# Altium schematic symbol library Capacitors - Ceramic - 01005.SchLib: 571 symbols (part 7 of 13)
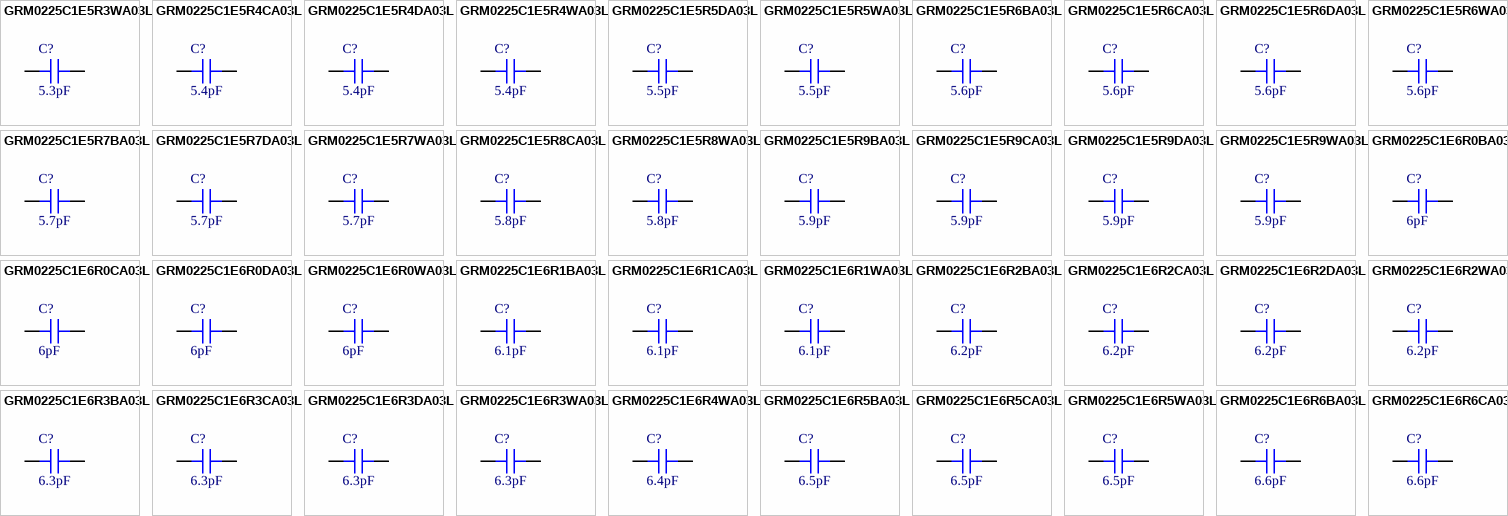
[diagram p20: symbols GRM0225C1E5R3WA03L to GRM0225C1E6R6CA03L]

## GRM0225C1E5R4CA03L
designator C?, comment 5.4pF
CAP CER 5.4PF 25V C0G/NP0 01005; Part Number: GRM0225C1E5R4CA03L; Manufacturer: Murata Electronics; Temperature Coefficient: C0G, NP0; Tolerance: ±0.25pF; Value: 5.4pF; Applications: General Purpose; Capacitance: 5.4pF; ComponentLink1Description: Datasheet; ComponentLink1URL: https://search.murata.co.jp/Ceramy/image/img/A01X/G101/ENG/GRM0225C1E5R4CA03-01.pdf; ComponentLink2Description: DigiKey Link; ComponentLink2URL: http://digikey.com/product-detail/en/murata-electronics/GRM0225C1E5R4CA03L/490-13610-1-ND/6048352; Device Package: 01005 (0402 Metric); LastUpdated: 9/2/2020 1:27:44 AM; Lifecycle Status: Active; Minimum Order: 1; Mounting Type: Surface Mount, MLCC; Operating Temperature: -55°C ~ 125°C; Package / Case: 01005 (0402 Metric); Packaging: TapeAndReel; Part Status: Active; Price: 0.01; Series: GRM; Size / Dimension: 0.016" L x 0.008" W (0.40mm x 0.20mm); Supplier 1: DigiKey; Supplier Part Number 1: 490-13610-1-ND; Thickness (Max): 0.009" (0.22mm); Voltage - Rated: 25V
footprint CAP 01005_0402
pins: 1, 2

## GRM0225C1E5R4DA03L
designator C?, comment 5.4pF
CAP CER 5.4PF 25V C0G/NP0 01005; Part Number: GRM0225C1E5R4DA03L; Manufacturer: Murata Electronics; Temperature Coefficient: C0G, NP0; Tolerance: ±0.5pF; Value: 5.4pF; Applications: General Purpose; Capacitance: 5.4pF; ComponentLink1Description: Datasheet; ComponentLink1URL: https://search.murata.co.jp/Ceramy/image/img/A01X/G101/ENG/GRM0225C1E5R4DA03-01.pdf; ComponentLink2Description: DigiKey Link; ComponentLink2URL: http://digikey.com/product-detail/en/murata-electronics/GRM0225C1E5R4DA03L/490-13611-1-ND/6048353; Device Package: 01005 (0402 Metric); LastUpdated: 9/2/2020 1:27:44 AM; Lifecycle Status: Active; Minimum Order: 1; Mounting Type: Surface Mount, MLCC; Operating Temperature: -55°C ~ 125°C; Package / Case: 01005 (0402 Metric); Packaging: TapeAndReel; Part Status: Active; Price: 0.01; Series: GRM; Size / Dimension: 0.016" L x 0.008" W (0.40mm x 0.20mm); Supplier 1: DigiKey; Supplier Part Number 1: 490-13611-1-ND; Thickness (Max): 0.009" (0.22mm); Voltage - Rated: 25V
footprint CAP 01005_0402
pins: 1, 2

## GRM0225C1E5R4WA03L
designator C?, comment 5.4pF
CAP CER 5.4PF 25V C0G/NP0 01005; Part Number: GRM0225C1E5R4WA03L; Manufacturer: Murata Electronics; Temperature Coefficient: C0G, NP0; Tolerance: ±0.05pF; Value: 5.4pF; Applications: General Purpose; Capacitance: 5.4pF; ComponentLink1Description: Datasheet; ComponentLink1URL: https://search.murata.co.jp/Ceramy/image/img/A01X/G101/ENG/GRM0225C1E5R4WA03-01.pdf; ComponentLink2Description: DigiKey Link; ComponentLink2URL: http://digikey.com/product-detail/en/murata-electronics/GRM0225C1E5R4WA03L/490-13612-1-ND/6048354; Device Package: 01005 (0402 Metric); LastUpdated: 9/2/2020 1:27:42 AM; Lifecycle Status: Active; Minimum Order: 1; Mounting Type: Surface Mount, MLCC; Operating Temperature: -55°C ~ 125°C; Package / Case: 01005 (0402 Metric); Packaging: TapeAndReel; Part Status: Active; Price: 0.02; Series: GRM; Size / Dimension: 0.016" L x 0.008" W (0.40mm x 0.20mm); Supplier 1: DigiKey; Supplier Part Number 1: 490-13612-1-ND; Thickness (Max): 0.009" (0.22mm); Voltage - Rated: 25V
footprint CAP 01005_0402
pins: 1, 2

## GRM0225C1E5R5DA03L
designator C?, comment 5.5pF
CAP CER 5.5PF 25V C0G/NP0 01005; Part Number: GRM0225C1E5R5DA03L; Manufacturer: Murata Electronics; Temperature Coefficient: C0G, NP0; Tolerance: ±0.5pF; Value: 5.5pF; Applications: General Purpose; Capacitance: 5.5pF; ComponentLink1Description: Datasheet; ComponentLink1URL: https://search.murata.co.jp/Ceramy/image/img/A01X/G101/ENG/GRM0225C1E5R5DA03-01.pdf; ComponentLink2Description: DigiKey Link; ComponentLink2URL: http://digikey.com/product-detail/en/murata-electronics/GRM0225C1E5R5DA03L/490-13615-1-ND/6048357; Device Package: 01005 (0402 Metric); LastUpdated: 9/2/2020 1:27:44 AM; Lifecycle Status: Active; Minimum Order: 1; Mounting Type: Surface Mount, MLCC; Operating Temperature: -55°C ~ 125°C; Package / Case: 01005 (0402 Metric); Packaging: TapeAndReel; Part Status: Active; Price: 0.01; Series: GRM; Size / Dimension: 0.016" L x 0.008" W (0.40mm x 0.20mm); Supplier 1: DigiKey; Supplier Part Number 1: 490-13615-1-ND; Thickness (Max): 0.009" (0.22mm); Voltage - Rated: 25V
footprint CAP 01005_0402
pins: 1, 2

## GRM0225C1E5R5WA03L
designator C?, comment 5.5pF
CAP CER 5.5PF 25V C0G/NP0 01005; Part Number: GRM0225C1E5R5WA03L; Manufacturer: Murata Electronics; Temperature Coefficient: C0G, NP0; Tolerance: ±0.05pF; Value: 5.5pF; Applications: General Purpose; Capacitance: 5.5pF; ComponentLink1Description: Datasheet; ComponentLink1URL: https://search.murata.co.jp/Ceramy/image/img/A01X/G101/ENG/GRM0225C1E5R5WA03-01.pdf; ComponentLink2Description: DigiKey Link; ComponentLink2URL: http://digikey.com/product-detail/en/murata-electronics/GRM0225C1E5R5WA03L/490-13616-1-ND/6048358; Device Package: 01005 (0402 Metric); LastUpdated: 9/2/2020 1:27:42 AM; Lifecycle Status: Active; Minimum Order: 1; Mounting Type: Surface Mount, MLCC; Operating Temperature: -55°C ~ 125°C; Package / Case: 01005 (0402 Metric); Packaging: TapeAndReel; Part Status: Active; Price: 0.02; Series: GRM; Size / Dimension: 0.016" L x 0.008" W (0.40mm x 0.20mm); Supplier 1: DigiKey; Supplier Part Number 1: 490-13616-1-ND; Thickness (Max): 0.009" (0.22mm); Voltage - Rated: 25V
footprint CAP 01005_0402
pins: 1, 2

## GRM0225C1E5R6BA03L
designator C?, comment 5.6pF
CAP CER 5.6PF 25V C0G/NP0 01005; Part Number: GRM0225C1E5R6BA03L; Manufacturer: Murata Electronics; Temperature Coefficient: C0G, NP0; Tolerance: ±0.1pF; Value: 5.6pF; Applications: General Purpose; Capacitance: 5.6pF; ComponentLink1Description: Datasheet; ComponentLink1URL: https://search.murata.co.jp/Ceramy/image/img/A01X/G101/ENG/GRM0225C1E5R6BA03-01.pdf; ComponentLink2Description: DigiKey Link; ComponentLink2URL: http://digikey.com/product-detail/en/murata-electronics/GRM0225C1E5R6BA03L/490-13617-1-ND/6048359; Device Package: 01005 (0402 Metric); LastUpdated: 9/2/2020 1:27:44 AM; Lifecycle Status: Active; Minimum Order: 1; Mounting Type: Surface Mount, MLCC; Operating Temperature: -55°C ~ 125°C; Package / Case: 01005 (0402 Metric); Packaging: TapeAndReel; Part Status: Active; Price: 0.01; Series: GRM; Size / Dimension: 0.016" L x 0.008" W (0.40mm x 0.20mm); Supplier 1: DigiKey; Supplier Part Number 1: 490-13617-1-ND; Thickness (Max): 0.009" (0.22mm); Voltage - Rated: 25V
footprint CAP 01005_0402
pins: 1, 2

## GRM0225C1E5R6CA03L
designator C?, comment 5.6pF
CAP CER 5.6PF 25V C0G/NP0 01005; Part Number: GRM0225C1E5R6CA03L; Manufacturer: Murata Electronics; Temperature Coefficient: C0G, NP0; Tolerance: ±0.25pF; Value: 5.6pF; Applications: General Purpose; Capacitance: 5.6pF; ComponentLink1Description: Datasheet; ComponentLink1URL: https://search.murata.co.jp/Ceramy/image/img/A01X/G101/ENG/GRM0225C1E5R6CA03-01.pdf; ComponentLink2Description: DigiKey Link; ComponentLink2URL: http://digikey.com/product-detail/en/murata-electronics/GRM0225C1E5R6CA03L/490-13618-1-ND/6048360; Device Package: 01005 (0402 Metric); LastUpdated: 9/2/2020 1:27:43 AM; Lifecycle Status: Active; Minimum Order: 1; Mounting Type: Surface Mount, MLCC; Operating Temperature: -55°C ~ 125°C; Package / Case: 01005 (0402 Metric); Packaging: TapeAndReel; Part Status: Active; Price: 0.01; Series: GRM; Size / Dimension: 0.016" L x 0.008" W (0.40mm x 0.20mm); Supplier 1: DigiKey; Supplier Part Number 1: 490-13618-1-ND; Thickness (Max): 0.009" (0.22mm); Voltage - Rated: 25V
footprint CAP 01005_0402
pins: 1, 2

## GRM0225C1E5R6DA03L
designator C?, comment 5.6pF
CAP CER 5.6PF 25V C0G/NP0 01005; Part Number: GRM0225C1E5R6DA03L; Manufacturer: Murata Electronics; Temperature Coefficient: C0G, NP0; Tolerance: ±0.5pF; Value: 5.6pF; Applications: General Purpose; Capacitance: 5.6pF; ComponentLink1Description: Datasheet; ComponentLink1URL: https://www.murata.com/~/media/webrenewal/support/library/catalog/products/capacitor/mlcc/c02e.ashx?la=en-us; ComponentLink2Description: DigiKey Link; ComponentLink2URL: http://digikey.com/product-detail/en/murata-electronics/GRM0225C1E5R6DA03L/490-13619-1-ND/6048361; Device Package: 01005 (0402 Metric); LastUpdated: 9/2/2020 1:27:44 AM; Lifecycle Status: Active; Minimum Order: 1; Mounting Type: Surface Mount, MLCC; Operating Temperature: -55°C ~ 125°C; Package / Case: 01005 (0402 Metric); Packaging: TapeAndReel; Part Status: Active; Price: 0.01; Series: GRM; Size / Dimension: 0.016" L x 0.008" W (0.40mm x 0.20mm); Supplier 1: DigiKey; Supplier Part Number 1: 490-13619-1-ND; Thickness (Max): 0.009" (0.22mm); Voltage - Rated: 25V
footprint CAP 01005_0402
pins: 1, 2

## GRM0225C1E5R6WA03L
designator C?, comment 5.6pF
CAP CER 5.6PF 25V C0G/NP0 01005; Part Number: GRM0225C1E5R6WA03L; Manufacturer: Murata Electronics; Temperature Coefficient: C0G, NP0; Tolerance: ±0.05pF; Value: 5.6pF; Applications: General Purpose; Capacitance: 5.6pF; ComponentLink1Description: Datasheet; ComponentLink1URL: https://search.murata.co.jp/Ceramy/image/img/A01X/G101/ENG/GRM0225C1E5R6WA03-01.pdf; ComponentLink2Description: DigiKey Link; ComponentLink2URL: http://digikey.com/product-detail/en/murata-electronics/GRM0225C1E5R6WA03L/490-13620-1-ND/6048362; Device Package: 01005 (0402 Metric); LastUpdated: 9/2/2020 1:27:42 AM; Lifecycle Status: Active; Minimum Order: 1; Mounting Type: Surface Mount, MLCC; Operating Temperature: -55°C ~ 125°C; Package / Case: 01005 (0402 Metric); Packaging: TapeAndReel; Part Status: Active; Price: 0.02; Series: GRM; Size / Dimension: 0.016" L x 0.008" W (0.40mm x 0.20mm); Supplier 1: DigiKey; Supplier Part Number 1: 490-13620-1-ND; Thickness (Max): 0.009" (0.22mm); Voltage - Rated: 25V
footprint CAP 01005_0402
pins: 1, 2

## GRM0225C1E5R7BA03L
designator C?, comment 5.7pF
CAP CER 5.7PF 25V C0G/NP0 01005; Part Number: GRM0225C1E5R7BA03L; Manufacturer: Murata Electronics; Temperature Coefficient: C0G, NP0; Tolerance: ±0.1pF; Value: 5.7pF; Applications: General Purpose; Capacitance: 5.7pF; ComponentLink1Description: Datasheet; ComponentLink1URL: https://search.murata.co.jp/Ceramy/image/img/A01X/G101/ENG/GRM0225C1E5R7BA03-01.pdf; ComponentLink2Description: DigiKey Link; ComponentLink2URL: http://digikey.com/product-detail/en/murata-electronics/GRM0225C1E5R7BA03L/490-13621-1-ND/6048363; Device Package: 01005 (0402 Metric); LastUpdated: 9/2/2020 1:27:44 AM; Lifecycle Status: Active; Minimum Order: 1; Mounting Type: Surface Mount, MLCC; Operating Temperature: -55°C ~ 125°C; Package / Case: 01005 (0402 Metric); Packaging: TapeAndReel; Part Status: Active; Price: 0.01; Series: GRM; Size / Dimension: 0.016" L x 0.008" W (0.40mm x 0.20mm); Supplier 1: DigiKey; Supplier Part Number 1: 490-13621-1-ND; Thickness (Max): 0.009" (0.22mm); Voltage - Rated: 25V
footprint CAP 01005_0402
pins: 1, 2

## GRM0225C1E5R7DA03L
designator C?, comment 5.7pF
CAP CER 5.7PF 25V C0G/NP0 01005; Part Number: GRM0225C1E5R7DA03L; Manufacturer: Murata Electronics; Temperature Coefficient: C0G, NP0; Tolerance: ±0.5pF; Value: 5.7pF; Applications: General Purpose; Capacitance: 5.7pF; ComponentLink1Description: Datasheet; ComponentLink1URL: https://search.murata.co.jp/Ceramy/image/img/A01X/G101/ENG/GRM0225C1E5R7DA03-01.pdf; ComponentLink2Description: DigiKey Link; ComponentLink2URL: http://digikey.com/product-detail/en/murata-electronics/GRM0225C1E5R7DA03L/490-13623-1-ND/6048365; Device Package: 01005 (0402 Metric); LastUpdated: 9/2/2020 1:27:44 AM; Lifecycle Status: Active; Minimum Order: 1; Mounting Type: Surface Mount, MLCC; Operating Temperature: -55°C ~ 125°C; Package / Case: 01005 (0402 Metric); Packaging: TapeAndReel; Part Status: Active; Price: 0.01; Series: GRM; Size / Dimension: 0.016" L x 0.008" W (0.40mm x 0.20mm); Supplier 1: DigiKey; Supplier Part Number 1: 490-13623-1-ND; Thickness (Max): 0.009" (0.22mm); Voltage - Rated: 25V
footprint CAP 01005_0402
pins: 1, 2

## GRM0225C1E5R7WA03L
designator C?, comment 5.7pF
CAP CER 5.7PF 25V C0G/NP0 01005; Part Number: GRM0225C1E5R7WA03L; Manufacturer: Murata Electronics; Temperature Coefficient: C0G, NP0; Tolerance: ±0.05pF; Value: 5.7pF; Applications: General Purpose; Capacitance: 5.7pF; ComponentLink1Description: Datasheet; ComponentLink1URL: https://search.murata.co.jp/Ceramy/image/img/A01X/G101/ENG/GRM0225C1E5R7WA03-01.pdf; ComponentLink2Description: DigiKey Link; ComponentLink2URL: http://digikey.com/product-detail/en/murata-electronics/GRM0225C1E5R7WA03L/490-13624-1-ND/6048366; Device Package: 01005 (0402 Metric); LastUpdated: 9/2/2020 1:27:42 AM; Lifecycle Status: Active; Minimum Order: 1; Mounting Type: Surface Mount, MLCC; Operating Temperature: -55°C ~ 125°C; Package / Case: 01005 (0402 Metric); Packaging: TapeAndReel; Part Status: Active; Price: 0.02; Series: GRM; Size / Dimension: 0.016" L x 0.008" W (0.40mm x 0.20mm); Supplier 1: DigiKey; Supplier Part Number 1: 490-13624-1-ND; Thickness (Max): 0.009" (0.22mm); Voltage - Rated: 25V
footprint CAP 01005_0402
pins: 1, 2

## GRM0225C1E5R8CA03L
designator C?, comment 5.8pF
CAP CER 5.8PF 25V C0G/NP0 01005; Part Number: GRM0225C1E5R8CA03L; Manufacturer: Murata Electronics; Temperature Coefficient: C0G, NP0; Tolerance: ±0.25pF; Value: 5.8pF; Applications: General Purpose; Capacitance: 5.8pF; ComponentLink1Description: Datasheet; ComponentLink1URL: https://search.murata.co.jp/Ceramy/image/img/A01X/G101/ENG/GRM0225C1E5R8CA03-01.pdf; ComponentLink2Description: DigiKey Link; ComponentLink2URL: http://digikey.com/product-detail/en/murata-electronics/GRM0225C1E5R8CA03L/490-13626-1-ND/6048368; Device Package: 01005 (0402 Metric); LastUpdated: 9/2/2020 1:27:44 AM; Lifecycle Status: Active; Minimum Order: 1; Mounting Type: Surface Mount, MLCC; Operating Temperature: -55°C ~ 125°C; Package / Case: 01005 (0402 Metric); Packaging: TapeAndReel; Part Status: Active; Price: 0.01; Series: GRM; Size / Dimension: 0.016" L x 0.008" W (0.40mm x 0.20mm); Supplier 1: DigiKey; Supplier Part Number 1: 490-13626-1-ND; Thickness (Max): 0.009" (0.22mm); Voltage - Rated: 25V
footprint CAP 01005_0402
pins: 1, 2

## GRM0225C1E5R8WA03L
designator C?, comment 5.8pF
CAP CER 5.8PF 25V C0G/NP0 01005; Part Number: GRM0225C1E5R8WA03L; Manufacturer: Murata Electronics; Temperature Coefficient: C0G, NP0; Tolerance: ±0.05pF; Value: 5.8pF; Applications: General Purpose; Capacitance: 5.8pF; ComponentLink1Description: Datasheet; ComponentLink1URL: https://search.murata.co.jp/Ceramy/image/img/A01X/G101/ENG/GRM0225C1E5R8WA03-01.pdf; ComponentLink2Description: DigiKey Link; ComponentLink2URL: http://digikey.com/product-detail/en/murata-electronics/GRM0225C1E5R8WA03L/490-13628-1-ND/6048370; Device Package: 01005 (0402 Metric); LastUpdated: 9/2/2020 1:27:42 AM; Lifecycle Status: Active; Minimum Order: 1; Mounting Type: Surface Mount, MLCC; Operating Temperature: -55°C ~ 125°C; Package / Case: 01005 (0402 Metric); Packaging: TapeAndReel; Part Status: Active; Price: 0.02; Series: GRM; Size / Dimension: 0.016" L x 0.008" W (0.40mm x 0.20mm); Supplier 1: DigiKey; Supplier Part Number 1: 490-13628-1-ND; Thickness (Max): 0.009" (0.22mm); Voltage - Rated: 25V
footprint CAP 01005_0402
pins: 1, 2

## GRM0225C1E5R9BA03L
designator C?, comment 5.9pF
CAP CER 5.9PF 25V C0G/NP0 01005; Part Number: GRM0225C1E5R9BA03L; Manufacturer: Murata Electronics; Temperature Coefficient: C0G, NP0; Tolerance: ±0.1pF; Value: 5.9pF; Applications: General Purpose; Capacitance: 5.9pF; ComponentLink1Description: Datasheet; ComponentLink1URL: https://search.murata.co.jp/Ceramy/image/img/A01X/G101/ENG/GRM0225C1E5R9BA03-01.pdf; ComponentLink2Description: DigiKey Link; ComponentLink2URL: http://digikey.com/product-detail/en/murata-electronics/GRM0225C1E5R9BA03L/490-13629-1-ND/6048371; Device Package: 01005 (0402 Metric); LastUpdated: 9/2/2020 1:27:44 AM; Lifecycle Status: Active; Minimum Order: 1; Mounting Type: Surface Mount, MLCC; Operating Temperature: -55°C ~ 125°C; Package / Case: 01005 (0402 Metric); Packaging: TapeAndReel; Part Status: Active; Price: 0.01; Series: GRM; Size / Dimension: 0.016" L x 0.008" W (0.40mm x 0.20mm); Supplier 1: DigiKey; Supplier Part Number 1: 490-13629-1-ND; Thickness (Max): 0.009" (0.22mm); Voltage - Rated: 25V
footprint CAP 01005_0402
pins: 1, 2

## GRM0225C1E5R9CA03L
designator C?, comment 5.9pF
CAP CER 5.9PF 25V C0G/NP0 01005; Part Number: GRM0225C1E5R9CA03L; Manufacturer: Murata Electronics; Temperature Coefficient: C0G, NP0; Tolerance: ±0.25pF; Value: 5.9pF; Applications: General Purpose; Capacitance: 5.9pF; ComponentLink1Description: Datasheet; ComponentLink1URL: https://search.murata.co.jp/Ceramy/image/img/A01X/G101/ENG/GRM0225C1E5R9CA03-01.pdf; ComponentLink2Description: DigiKey Link; ComponentLink2URL: http://digikey.com/product-detail/en/murata-electronics/GRM0225C1E5R9CA03L/490-13630-1-ND/6048372; Device Package: 01005 (0402 Metric); LastUpdated: 9/2/2020 1:27:44 AM; Lifecycle Status: Active; Minimum Order: 1; Mounting Type: Surface Mount, MLCC; Operating Temperature: -55°C ~ 125°C; Package / Case: 01005 (0402 Metric); Packaging: TapeAndReel; Part Status: Active; Price: 0.01; Series: GRM; Size / Dimension: 0.016" L x 0.008" W (0.40mm x 0.20mm); Supplier 1: DigiKey; Supplier Part Number 1: 490-13630-1-ND; Thickness (Max): 0.009" (0.22mm); Voltage - Rated: 25V
footprint CAP 01005_0402
pins: 1, 2

## GRM0225C1E5R9DA03L
designator C?, comment 5.9pF
CAP CER 5.9PF 25V C0G/NP0 01005; Part Number: GRM0225C1E5R9DA03L; Manufacturer: Murata Electronics; Temperature Coefficient: C0G, NP0; Tolerance: ±0.5pF; Value: 5.9pF; Applications: General Purpose; Capacitance: 5.9pF; ComponentLink1Description: Datasheet; ComponentLink1URL: https://search.murata.co.jp/Ceramy/image/img/A01X/G101/ENG/GRM0225C1E5R9DA03-01.pdf; ComponentLink2Description: DigiKey Link; ComponentLink2URL: http://digikey.com/product-detail/en/murata-electronics/GRM0225C1E5R9DA03L/490-13631-1-ND/6048373; Device Package: 01005 (0402 Metric); LastUpdated: 9/2/2020 1:27:44 AM; Lifecycle Status: Active; Minimum Order: 1; Mounting Type: Surface Mount, MLCC; Operating Temperature: -55°C ~ 125°C; Package / Case: 01005 (0402 Metric); Packaging: TapeAndReel; Part Status: Active; Price: 0.01; Series: GRM; Size / Dimension: 0.016" L x 0.008" W (0.40mm x 0.20mm); Supplier 1: DigiKey; Supplier Part Number 1: 490-13631-1-ND; Thickness (Max): 0.009" (0.22mm); Voltage - Rated: 25V
footprint CAP 01005_0402
pins: 1, 2

## GRM0225C1E5R9WA03L
designator C?, comment 5.9pF
CAP CER 5.9PF 25V C0G/NP0 01005; Part Number: GRM0225C1E5R9WA03L; Manufacturer: Murata Electronics; Temperature Coefficient: C0G, NP0; Tolerance: ±0.05pF; Value: 5.9pF; Applications: General Purpose; Capacitance: 5.9pF; ComponentLink1Description: Datasheet; ComponentLink1URL: https://search.murata.co.jp/Ceramy/image/img/A01X/G101/ENG/GRM0225C1E5R9WA03-01.pdf; ComponentLink2Description: DigiKey Link; ComponentLink2URL: http://digikey.com/product-detail/en/murata-electronics/GRM0225C1E5R9WA03L/490-13632-1-ND/6048374; Device Package: 01005 (0402 Metric); LastUpdated: 9/2/2020 1:27:42 AM; Lifecycle Status: Active; Minimum Order: 1; Mounting Type: Surface Mount, MLCC; Operating Temperature: -55°C ~ 125°C; Package / Case: 01005 (0402 Metric); Packaging: TapeAndReel; Part Status: Active; Price: 0.02; Series: GRM; Size / Dimension: 0.016" L x 0.008" W (0.40mm x 0.20mm); Supplier 1: DigiKey; Supplier Part Number 1: 490-13632-1-ND; Thickness (Max): 0.009" (0.22mm); Voltage - Rated: 25V
footprint CAP 01005_0402
pins: 1, 2

## GRM0225C1E6R0BA03L
designator C?, comment 6pF
CAP CER 6PF 25V C0G/NP0 01005; Part Number: GRM0225C1E6R0BA03L; Manufacturer: Murata Electronics; Temperature Coefficient: C0G, NP0; Tolerance: ±0.1pF; Value: 6pF; Applications: General Purpose; Capacitance: 6pF; ComponentLink1Description: Datasheet; ComponentLink1URL: https://www.murata.com/~/media/webrenewal/support/library/catalog/products/capacitor/mlcc/c02e.ashx?la=en-us; ComponentLink2Description: DigiKey Link; ComponentLink2URL: http://digikey.com/product-detail/en/murata-electronics/GRM0225C1E6R0BA03L/490-13633-1-ND/6048375; Device Package: 01005 (0402 Metric); LastUpdated: 9/2/2020 1:27:44 AM; Lifecycle Status: Active; Minimum Order: 1; Mounting Type: Surface Mount, MLCC; Operating Temperature: -55°C ~ 125°C; Package / Case: 01005 (0402 Metric); Packaging: TapeAndReel; Part Status: Active; Price: 0.01; Series: GRM; Size / Dimension: 0.016" L x 0.008" W (0.40mm x 0.20mm); Supplier 1: DigiKey; Supplier Part Number 1: 490-13633-1-ND; Thickness (Max): 0.009" (0.22mm); Voltage - Rated: 25V
footprint CAP 01005_0402
pins: 1, 2

## GRM0225C1E6R0CA03L
designator C?, comment 6pF
CAP CER 6PF 25V C0G/NP0 01005; Part Number: GRM0225C1E6R0CA03L; Manufacturer: Murata Electronics; Temperature Coefficient: C0G, NP0; Tolerance: ±0.25pF; Value: 6pF; Applications: General Purpose; Capacitance: 6pF; ComponentLink1Description: Datasheet; ComponentLink1URL: https://search.murata.co.jp/Ceramy/image/img/A01X/G101/ENG/GRM0225C1E6R0CA03-01.pdf; ComponentLink2Description: DigiKey Link; ComponentLink2URL: http://digikey.com/product-detail/en/murata-electronics/GRM0225C1E6R0CA03L/490-13634-1-ND/6048376; Device Package: 01005 (0402 Metric); LastUpdated: 9/2/2020 1:27:44 AM; Lifecycle Status: Active; Minimum Order: 1; Mounting Type: Surface Mount, MLCC; Operating Temperature: -55°C ~ 125°C; Package / Case: 01005 (0402 Metric); Packaging: TapeAndReel; Part Status: Active; Price: 0.01; Series: GRM; Size / Dimension: 0.016" L x 0.008" W (0.40mm x 0.20mm); Supplier 1: DigiKey; Supplier Part Number 1: 490-13634-1-ND; Thickness (Max): 0.009" (0.22mm); Voltage - Rated: 25V
footprint CAP 01005_0402
pins: 1, 2

## GRM0225C1E6R0DA03L
designator C?, comment 6pF
CAP CER 6PF 25V C0G/NP0 01005; Part Number: GRM0225C1E6R0DA03L; Manufacturer: Murata Electronics; Temperature Coefficient: C0G, NP0; Tolerance: ±0.5pF; Value: 6pF; Applications: General Purpose; Capacitance: 6pF; ComponentLink1Description: Datasheet; ComponentLink1URL: https://search.murata.co.jp/Ceramy/image/img/A01X/G101/ENG/GRM0225C1E6R0DA03-01.pdf; ComponentLink2Description: DigiKey Link; ComponentLink2URL: http://digikey.com/product-detail/en/murata-electronics/GRM0225C1E6R0DA03L/490-13635-1-ND/6048377; Device Package: 01005 (0402 Metric); LastUpdated: 9/2/2020 1:27:44 AM; Lifecycle Status: Active; Minimum Order: 1; Mounting Type: Surface Mount, MLCC; Operating Temperature: -55°C ~ 125°C; Package / Case: 01005 (0402 Metric); Packaging: TapeAndReel; Part Status: Active; Price: 0.01; Series: GRM; Size / Dimension: 0.016" L x 0.008" W (0.40mm x 0.20mm); Supplier 1: DigiKey; Supplier Part Number 1: 490-13635-1-ND; Thickness (Max): 0.009" (0.22mm); Voltage - Rated: 25V
footprint CAP 01005_0402
pins: 1, 2

## GRM0225C1E6R0WA03L
designator C?, comment 6pF
CAP CER 6PF 25V C0G/NP0 01005; Part Number: GRM0225C1E6R0WA03L; Manufacturer: Murata Electronics; Temperature Coefficient: C0G, NP0; Tolerance: ±0.05pF; Value: 6pF; Applications: General Purpose; Capacitance: 6pF; ComponentLink1Description: Datasheet; ComponentLink1URL: https://search.murata.co.jp/Ceramy/image/img/A01X/G101/ENG/GRM0225C1E6R0WA03-01.pdf; ComponentLink2Description: DigiKey Link; ComponentLink2URL: http://digikey.com/product-detail/en/murata-electronics/GRM0225C1E6R0WA03L/490-13636-1-ND/6048378; Device Package: 01005 (0402 Metric); LastUpdated: 9/2/2020 1:27:42 AM; Lifecycle Status: Active; Minimum Order: 1; Mounting Type: Surface Mount, MLCC; Operating Temperature: -55°C ~ 125°C; Package / Case: 01005 (0402 Metric); Packaging: TapeAndReel; Part Status: Active; Price: 0.02; Series: GRM; Size / Dimension: 0.016" L x 0.008" W (0.40mm x 0.20mm); Supplier 1: DigiKey; Supplier Part Number 1: 490-13636-1-ND; Thickness (Max): 0.009" (0.22mm); Voltage - Rated: 25V
footprint CAP 01005_0402
pins: 1, 2

## GRM0225C1E6R1BA03L
designator C?, comment 6.1pF
CAP CER 6.1PF 25V C0G/NP0 01005; Part Number: GRM0225C1E6R1BA03L; Manufacturer: Murata Electronics; Temperature Coefficient: C0G, NP0; Tolerance: ±0.1pF; Value: 6.1pF; Applications: General Purpose; Capacitance: 6.1pF; ComponentLink1Description: Datasheet; ComponentLink1URL: https://search.murata.co.jp/Ceramy/image/img/A01X/G101/ENG/GRM0225C1E6R1BA03-01.pdf; ComponentLink2Description: DigiKey Link; ComponentLink2URL: http://digikey.com/product-detail/en/murata-electronics/GRM0225C1E6R1BA03L/490-13637-1-ND/6048379; Device Package: 01005 (0402 Metric); LastUpdated: 9/2/2020 1:27:44 AM; Lifecycle Status: Active; Minimum Order: 1; Mounting Type: Surface Mount, MLCC; Operating Temperature: -55°C ~ 125°C; Package / Case: 01005 (0402 Metric); Packaging: TapeAndReel; Part Status: Active; Price: 0.01; Series: GRM; Size / Dimension: 0.016" L x 0.008" W (0.40mm x 0.20mm); Supplier 1: DigiKey; Supplier Part Number 1: 490-13637-1-ND; Thickness (Max): 0.009" (0.22mm); Voltage - Rated: 25V
footprint CAP 01005_0402
pins: 1, 2

## GRM0225C1E6R1CA03L
designator C?, comment 6.1pF
CAP CER 6.1PF 25V C0G/NP0 01005; Part Number: GRM0225C1E6R1CA03L; Manufacturer: Murata Electronics; Temperature Coefficient: C0G, NP0; Tolerance: ±0.25pF; Value: 6.1pF; Applications: General Purpose; Capacitance: 6.1pF; ComponentLink1Description: Datasheet; ComponentLink1URL: https://search.murata.co.jp/Ceramy/image/img/A01X/G101/ENG/GRM0225C1E6R1CA03-01.pdf; ComponentLink2Description: DigiKey Link; ComponentLink2URL: http://digikey.com/product-detail/en/murata-electronics/GRM0225C1E6R1CA03L/490-13638-1-ND/6048380; Device Package: 01005 (0402 Metric); LastUpdated: 9/2/2020 1:27:44 AM; Lifecycle Status: Active; Minimum Order: 1; Mounting Type: Surface Mount, MLCC; Operating Temperature: -55°C ~ 125°C; Package / Case: 01005 (0402 Metric); Packaging: TapeAndReel; Part Status: Active; Price: 0.01; Series: GRM; Size / Dimension: 0.016" L x 0.008" W (0.40mm x 0.20mm); Supplier 1: DigiKey; Supplier Part Number 1: 490-13638-1-ND; Thickness (Max): 0.009" (0.22mm); Voltage - Rated: 25V
footprint CAP 01005_0402
pins: 1, 2

## GRM0225C1E6R1WA03L
designator C?, comment 6.1pF
CAP CER 6.1PF 25V C0G/NP0 01005; Part Number: GRM0225C1E6R1WA03L; Manufacturer: Murata Electronics; Temperature Coefficient: C0G, NP0; Tolerance: ±0.05pF; Value: 6.1pF; Applications: General Purpose; Capacitance: 6.1pF; ComponentLink1Description: Datasheet; ComponentLink1URL: https://www.murata.com/~/media/webrenewal/support/library/catalog/products/capacitor/mlcc/c02e.ashx?la=en-us; ComponentLink2Description: DigiKey Link; ComponentLink2URL: http://digikey.com/product-detail/en/murata-electronics/GRM0225C1E6R1WA03L/490-13640-1-ND/6048382; Device Package: 01005 (0402 Metric); LastUpdated: 9/2/2020 1:27:42 AM; Lifecycle Status: Active; Minimum Order: 1; Mounting Type: Surface Mount, MLCC; Operating Temperature: -55°C ~ 125°C; Package / Case: 01005 (0402 Metric); Packaging: TapeAndReel; Part Status: Active; Price: 0.02; Series: GRM; Size / Dimension: 0.016" L x 0.008" W (0.40mm x 0.20mm); Supplier 1: DigiKey; Supplier Part Number 1: 490-13640-1-ND; Thickness (Max): 0.009" (0.22mm); Voltage - Rated: 25V
footprint CAP 01005_0402
pins: 1, 2

## GRM0225C1E6R2BA03L
designator C?, comment 6.2pF
CAP CER 6.2PF 25V C0G/NP0 01005; Part Number: GRM0225C1E6R2BA03L; Manufacturer: Murata Electronics; Temperature Coefficient: C0G, NP0; Tolerance: ±0.1pF; Value: 6.2pF; Applications: General Purpose; Capacitance: 6.2pF; ComponentLink1Description: Datasheet; ComponentLink1URL: https://search.murata.co.jp/Ceramy/image/img/A01X/G101/ENG/GRM0225C1E6R2BA03-01.pdf; ComponentLink2Description: DigiKey Link; ComponentLink2URL: http://digikey.com/product-detail/en/murata-electronics/GRM0225C1E6R2BA03L/490-13641-1-ND/6048383; Device Package: 01005 (0402 Metric); LastUpdated: 9/2/2020 1:27:44 AM; Lifecycle Status: Active; Minimum Order: 1; Mounting Type: Surface Mount, MLCC; Operating Temperature: -55°C ~ 125°C; Package / Case: 01005 (0402 Metric); Packaging: TapeAndReel; Part Status: Active; Price: 0.01; Series: GRM; Size / Dimension: 0.016" L x 0.008" W (0.40mm x 0.20mm); Supplier 1: DigiKey; Supplier Part Number 1: 490-13641-1-ND; Thickness (Max): 0.009" (0.22mm); Voltage - Rated: 25V
footprint CAP 01005_0402
pins: 1, 2

## GRM0225C1E6R2CA03L
designator C?, comment 6.2pF
CAP CER 6.2PF 25V C0G/NP0 01005; Part Number: GRM0225C1E6R2CA03L; Manufacturer: Murata Electronics; Temperature Coefficient: C0G, NP0; Tolerance: ±0.25pF; Value: 6.2pF; Applications: General Purpose; Capacitance: 6.2pF; ComponentLink1Description: Datasheet; ComponentLink1URL: https://search.murata.co.jp/Ceramy/image/img/A01X/G101/ENG/GRM0225C1E6R2CA03-01.pdf; ComponentLink2Description: DigiKey Link; ComponentLink2URL: http://digikey.com/product-detail/en/murata-electronics/GRM0225C1E6R2CA03L/490-13642-1-ND/6048384; Device Package: 01005 (0402 Metric); LastUpdated: 9/2/2020 1:27:44 AM; Lifecycle Status: Active; Minimum Order: 1; Mounting Type: Surface Mount, MLCC; Operating Temperature: -55°C ~ 125°C; Package / Case: 01005 (0402 Metric); Packaging: TapeAndReel; Part Status: Active; Price: 0.01; Series: GRM; Size / Dimension: 0.016" L x 0.008" W (0.40mm x 0.20mm); Supplier 1: DigiKey; Supplier Part Number 1: 490-13642-1-ND; Thickness (Max): 0.009" (0.22mm); Voltage - Rated: 25V
footprint CAP 01005_0402
pins: 1, 2

## GRM0225C1E6R2DA03L
designator C?, comment 6.2pF
CAP CER 6.2PF 25V C0G/NP0 01005; Part Number: GRM0225C1E6R2DA03L; Manufacturer: Murata Electronics; Temperature Coefficient: C0G, NP0; Tolerance: ±0.5pF; Value: 6.2pF; Applications: General Purpose; Capacitance: 6.2pF; ComponentLink1Description: Datasheet; ComponentLink1URL: https://search.murata.co.jp/Ceramy/image/img/A01X/G101/ENG/GRM0225C1E6R2DA03-01.pdf; ComponentLink2Description: DigiKey Link; ComponentLink2URL: http://digikey.com/product-detail/en/murata-electronics/GRM0225C1E6R2DA03L/490-13643-1-ND/6048385; Device Package: 01005 (0402 Metric); LastUpdated: 9/2/2020 1:27:44 AM; Lifecycle Status: Active; Minimum Order: 1; Mounting Type: Surface Mount, MLCC; Operating Temperature: -55°C ~ 125°C; Package / Case: 01005 (0402 Metric); Packaging: TapeAndReel; Part Status: Active; Price: 0.01; Series: GRM; Size / Dimension: 0.016" L x 0.008" W (0.40mm x 0.20mm); Supplier 1: DigiKey; Supplier Part Number 1: 490-13643-1-ND; Thickness (Max): 0.009" (0.22mm); Voltage - Rated: 25V
footprint CAP 01005_0402
pins: 1, 2

## GRM0225C1E6R2WA03L
designator C?, comment 6.2pF
CAP CER 6.2PF 25V C0G/NP0 01005; Part Number: GRM0225C1E6R2WA03L; Manufacturer: Murata Electronics; Temperature Coefficient: C0G, NP0; Tolerance: ±0.05pF; Value: 6.2pF; Applications: General Purpose; Capacitance: 6.2pF; ComponentLink1Description: Datasheet; ComponentLink1URL: https://www.murata.com/~/media/webrenewal/support/library/catalog/products/capacitor/mlcc/c02e.ashx?la=en-us; ComponentLink2Description: DigiKey Link; ComponentLink2URL: http://digikey.com/product-detail/en/murata-electronics/GRM0225C1E6R2WA03L/490-13644-1-ND/6048386; Device Package: 01005 (0402 Metric); LastUpdated: 9/2/2020 1:27:42 AM; Lifecycle Status: Active; Minimum Order: 1; Mounting Type: Surface Mount, MLCC; Operating Temperature: -55°C ~ 125°C; Package / Case: 01005 (0402 Metric); Packaging: TapeAndReel; Part Status: Active; Price: 0.02; Series: GRM; Size / Dimension: 0.016" L x 0.008" W (0.40mm x 0.20mm); Supplier 1: DigiKey; Supplier Part Number 1: 490-13644-1-ND; Thickness (Max): 0.009" (0.22mm); Voltage - Rated: 25V
footprint CAP 01005_0402
pins: 1, 2

## GRM0225C1E6R3BA03L
designator C?, comment 6.3pF
CAP CER 6.3PF 25V C0G/NP0 01005; Part Number: GRM0225C1E6R3BA03L; Manufacturer: Murata Electronics; Temperature Coefficient: C0G, NP0; Tolerance: ±0.1pF; Value: 6.3pF; Applications: General Purpose; Capacitance: 6.3pF; ComponentLink1Description: Datasheet; ComponentLink1URL: https://search.murata.co.jp/Ceramy/image/img/A01X/G101/ENG/GRM0225C1E6R3BA03-01.pdf; ComponentLink2Description: DigiKey Link; ComponentLink2URL: http://digikey.com/product-detail/en/murata-electronics/GRM0225C1E6R3BA03L/490-13645-1-ND/6048387; Device Package: 01005 (0402 Metric); LastUpdated: 9/2/2020 1:27:44 AM; Lifecycle Status: Active; Minimum Order: 1; Mounting Type: Surface Mount, MLCC; Operating Temperature: -55°C ~ 125°C; Package / Case: 01005 (0402 Metric); Packaging: TapeAndReel; Part Status: Active; Price: 0.01; Series: GRM; Size / Dimension: 0.016" L x 0.008" W (0.40mm x 0.20mm); Supplier 1: DigiKey; Supplier Part Number 1: 490-13645-1-ND; Thickness (Max): 0.009" (0.22mm); Voltage - Rated: 25V
footprint CAP 01005_0402
pins: 1, 2

## GRM0225C1E6R3CA03L
designator C?, comment 6.3pF
CAP CER 6.3PF 25V C0G/NP0 01005; Part Number: GRM0225C1E6R3CA03L; Manufacturer: Murata Electronics; Temperature Coefficient: C0G, NP0; Tolerance: ±0.25pF; Value: 6.3pF; Applications: General Purpose; Capacitance: 6.3pF; ComponentLink1Description: Datasheet; ComponentLink1URL: https://search.murata.co.jp/Ceramy/image/img/A01X/G101/ENG/GRM0225C1E6R3CA03-01.pdf; ComponentLink2Description: DigiKey Link; ComponentLink2URL: http://digikey.com/product-detail/en/murata-electronics/GRM0225C1E6R3CA03L/490-13646-1-ND/6048388; Device Package: 01005 (0402 Metric); LastUpdated: 9/2/2020 1:27:44 AM; Lifecycle Status: Active; Minimum Order: 1; Mounting Type: Surface Mount, MLCC; Operating Temperature: -55°C ~ 125°C; Package / Case: 01005 (0402 Metric); Packaging: TapeAndReel; Part Status: Active; Price: 0.01; Series: GRM; Size / Dimension: 0.016" L x 0.008" W (0.40mm x 0.20mm); Supplier 1: DigiKey; Supplier Part Number 1: 490-13646-1-ND; Thickness (Max): 0.009" (0.22mm); Voltage - Rated: 25V
footprint CAP 01005_0402
pins: 1, 2

## GRM0225C1E6R3DA03L
designator C?, comment 6.3pF
CAP CER 6.3PF 25V C0G/NP0 01005; Part Number: GRM0225C1E6R3DA03L; Manufacturer: Murata Electronics; Temperature Coefficient: C0G, NP0; Tolerance: ±0.5pF; Value: 6.3pF; Applications: General Purpose; Capacitance: 6.3pF; ComponentLink1Description: Datasheet; ComponentLink1URL: https://search.murata.co.jp/Ceramy/image/img/A01X/G101/ENG/GRM0225C1E6R3DA03-01.pdf; ComponentLink2Description: DigiKey Link; ComponentLink2URL: http://digikey.com/product-detail/en/murata-electronics/GRM0225C1E6R3DA03L/490-13647-1-ND/6048389; Device Package: 01005 (0402 Metric); LastUpdated: 9/2/2020 1:27:44 AM; Lifecycle Status: Active; Minimum Order: 1; Mounting Type: Surface Mount, MLCC; Operating Temperature: -55°C ~ 125°C; Package / Case: 01005 (0402 Metric); Packaging: TapeAndReel; Part Status: Active; Price: 0.01; Series: GRM; Size / Dimension: 0.016" L x 0.008" W (0.40mm x 0.20mm); Supplier 1: DigiKey; Supplier Part Number 1: 490-13647-1-ND; Thickness (Max): 0.009" (0.22mm); Voltage - Rated: 25V
footprint CAP 01005_0402
pins: 1, 2

## GRM0225C1E6R3WA03L
designator C?, comment 6.3pF
CAP CER 6.3PF 25V C0G/NP0 01005; Part Number: GRM0225C1E6R3WA03L; Manufacturer: Murata Electronics; Temperature Coefficient: C0G, NP0; Tolerance: ±0.05pF; Value: 6.3pF; Applications: General Purpose; Capacitance: 6.3pF; ComponentLink1Description: Datasheet; ComponentLink1URL: https://www.murata.com/~/media/webrenewal/support/library/catalog/products/capacitor/mlcc/c02e.ashx?la=en-us; ComponentLink2Description: DigiKey Link; ComponentLink2URL: http://digikey.com/product-detail/en/murata-electronics/GRM0225C1E6R3WA03L/490-13648-1-ND/6048390; Device Package: 01005 (0402 Metric); LastUpdated: 9/2/2020 1:27:42 AM; Lifecycle Status: Active; Minimum Order: 1; Mounting Type: Surface Mount, MLCC; Operating Temperature: -55°C ~ 125°C; Package / Case: 01005 (0402 Metric); Packaging: TapeAndReel; Part Status: Active; Price: 0.02; Series: GRM; Size / Dimension: 0.016" L x 0.008" W (0.40mm x 0.20mm); Supplier 1: DigiKey; Supplier Part Number 1: 490-13648-1-ND; Thickness (Max): 0.009" (0.22mm); Voltage - Rated: 25V
footprint CAP 01005_0402
pins: 1, 2

## GRM0225C1E6R4WA03L
designator C?, comment 6.4pF
CAP CER 6.4PF 25V C0G/NP0 01005; Part Number: GRM0225C1E6R4WA03L; Manufacturer: Murata Electronics; Temperature Coefficient: C0G, NP0; Tolerance: ±0.05pF; Value: 6.4pF; Applications: General Purpose; Capacitance: 6.4pF; ComponentLink1Description: Datasheet; ComponentLink1URL: https://search.murata.co.jp/Ceramy/image/img/A01X/G101/ENG/GRM0225C1E6R4WA03-01.pdf; ComponentLink2Description: DigiKey Link; ComponentLink2URL: http://digikey.com/product-detail/en/murata-electronics/GRM0225C1E6R4WA03L/490-13652-1-ND/6048394; Device Package: 01005 (0402 Metric); LastUpdated: 9/2/2020 1:27:42 AM; Lifecycle Status: Active; Minimum Order: 1; Mounting Type: Surface Mount, MLCC; Operating Temperature: -55°C ~ 125°C; Package / Case: 01005 (0402 Metric); Packaging: TapeAndReel; Part Status: Active; Price: 0.02; Series: GRM; Size / Dimension: 0.016" L x 0.008" W (0.40mm x 0.20mm); Supplier 1: DigiKey; Supplier Part Number 1: 490-13652-1-ND; Thickness (Max): 0.009" (0.22mm); Voltage - Rated: 25V
footprint CAP 01005_0402
pins: 1, 2

## GRM0225C1E6R5BA03L
designator C?, comment 6.5pF
CAP CER 6.5PF 25V C0G/NP0 01005; Part Number: GRM0225C1E6R5BA03L; Manufacturer: Murata Electronics; Temperature Coefficient: C0G, NP0; Tolerance: ±0.1pF; Value: 6.5pF; Applications: General Purpose; Capacitance: 6.5pF; ComponentLink1Description: Datasheet; ComponentLink1URL: https://search.murata.co.jp/Ceramy/image/img/A01X/G101/ENG/GRM0225C1E6R5BA03-01.pdf; ComponentLink2Description: DigiKey Link; ComponentLink2URL: http://digikey.com/product-detail/en/murata-electronics/GRM0225C1E6R5BA03L/490-13653-1-ND/6048395; Device Package: 01005 (0402 Metric); LastUpdated: 9/2/2020 1:27:44 AM; Lifecycle Status: Active; Minimum Order: 1; Mounting Type: Surface Mount, MLCC; Operating Temperature: -55°C ~ 125°C; Package / Case: 01005 (0402 Metric); Packaging: TapeAndReel; Part Status: Active; Price: 0.01; Series: GRM; Size / Dimension: 0.016" L x 0.008" W (0.40mm x 0.20mm); Supplier 1: DigiKey; Supplier Part Number 1: 490-13653-1-ND; Thickness (Max): 0.009" (0.22mm); Voltage - Rated: 25V
footprint CAP 01005_0402
pins: 1, 2

## GRM0225C1E6R5CA03L
designator C?, comment 6.5pF
CAP CER 6.5PF 25V C0G/NP0 01005; Part Number: GRM0225C1E6R5CA03L; Manufacturer: Murata Electronics; Temperature Coefficient: C0G, NP0; Tolerance: ±0.25pF; Value: 6.5pF; Applications: General Purpose; Capacitance: 6.5pF; ComponentLink1Description: Datasheet; ComponentLink1URL: https://search.murata.co.jp/Ceramy/image/img/A01X/G101/ENG/GRM0225C1E6R5CA03-01.pdf; ComponentLink2Description: DigiKey Link; ComponentLink2URL: http://digikey.com/product-detail/en/murata-electronics/GRM0225C1E6R5CA03L/490-13654-1-ND/6048396; Device Package: 01005 (0402 Metric); LastUpdated: 9/2/2020 1:27:44 AM; Lifecycle Status: Active; Minimum Order: 1; Mounting Type: Surface Mount, MLCC; Operating Temperature: -55°C ~ 125°C; Package / Case: 01005 (0402 Metric); Packaging: TapeAndReel; Part Status: Active; Price: 0.01; Series: GRM; Size / Dimension: 0.016" L x 0.008" W (0.40mm x 0.20mm); Supplier 1: DigiKey; Supplier Part Number 1: 490-13654-1-ND; Thickness (Max): 0.009" (0.22mm); Voltage - Rated: 25V
footprint CAP 01005_0402
pins: 1, 2

## GRM0225C1E6R5WA03L
designator C?, comment 6.5pF
CAP CER 6.5PF 25V C0G/NP0 01005; Part Number: GRM0225C1E6R5WA03L; Manufacturer: Murata Electronics; Temperature Coefficient: C0G, NP0; Tolerance: ±0.05pF; Value: 6.5pF; Applications: General Purpose; Capacitance: 6.5pF; ComponentLink1Description: Datasheet; ComponentLink1URL: https://www.murata.com/~/media/webrenewal/support/library/catalog/products/capacitor/mlcc/c02e.ashx?la=en-us; ComponentLink2Description: DigiKey Link; ComponentLink2URL: http://digikey.com/product-detail/en/murata-electronics/GRM0225C1E6R5WA03L/490-13656-1-ND/6048398; Device Package: 01005 (0402 Metric); LastUpdated: 9/2/2020 1:27:42 AM; Lifecycle Status: Active; Minimum Order: 1; Mounting Type: Surface Mount, MLCC; Operating Temperature: -55°C ~ 125°C; Package / Case: 01005 (0402 Metric); Packaging: TapeAndReel; Part Status: Active; Price: 0.02; Series: GRM; Size / Dimension: 0.016" L x 0.008" W (0.40mm x 0.20mm); Supplier 1: DigiKey; Supplier Part Number 1: 490-13656-1-ND; Thickness (Max): 0.009" (0.22mm); Voltage - Rated: 25V
footprint CAP 01005_0402
pins: 1, 2

## GRM0225C1E6R6BA03L
designator C?, comment 6.6pF
CAP CER 6.6PF 25V C0G/NP0 01005; Part Number: GRM0225C1E6R6BA03L; Manufacturer: Murata Electronics; Temperature Coefficient: C0G, NP0; Tolerance: ±0.1pF; Value: 6.6pF; Applications: General Purpose; Capacitance: 6.6pF; ComponentLink1Description: Datasheet; ComponentLink1URL: https://search.murata.co.jp/Ceramy/image/img/A01X/G101/ENG/GRM0225C1E6R6BA03-01.pdf; ComponentLink2Description: DigiKey Link; ComponentLink2URL: http://digikey.com/product-detail/en/murata-electronics/GRM0225C1E6R6BA03L/490-13657-1-ND/6048399; Device Package: 01005 (0402 Metric); LastUpdated: 9/2/2020 1:27:44 AM; Lifecycle Status: Active; Minimum Order: 1; Mounting Type: Surface Mount, MLCC; Operating Temperature: -55°C ~ 125°C; Package / Case: 01005 (0402 Metric); Packaging: TapeAndReel; Part Status: Active; Price: 0.01; Series: GRM; Size / Dimension: 0.016" L x 0.008" W (0.40mm x 0.20mm); Supplier 1: DigiKey; Supplier Part Number 1: 490-13657-1-ND; Thickness (Max): 0.009" (0.22mm); Voltage - Rated: 25V
footprint CAP 01005_0402
pins: 1, 2

## GRM0225C1E6R6CA03L
designator C?, comment 6.6pF
CAP CER 6.6PF 25V C0G/NP0 01005; Part Number: GRM0225C1E6R6CA03L; Manufacturer: Murata Electronics; Temperature Coefficient: C0G, NP0; Tolerance: ±0.25pF; Value: 6.6pF; Applications: General Purpose; Capacitance: 6.6pF; ComponentLink1Description: Datasheet; ComponentLink1URL: https://www.murata.com/~/media/webrenewal/support/library/catalog/products/capacitor/mlcc/c02e.ashx?la=en-us; ComponentLink2Description: DigiKey Link; ComponentLink2URL: http://digikey.com/product-detail/en/murata-electronics/GRM0225C1E6R6CA03L/490-13658-1-ND/6048400; Device Package: 01005 (0402 Metric); LastUpdated: 9/2/2020 1:27:44 AM; Lifecycle Status: Active; Minimum Order: 1; Mounting Type: Surface Mount, MLCC; Operating Temperature: -55°C ~ 125°C; Package / Case: 01005 (0402 Metric); Packaging: TapeAndReel; Part Status: Active; Price: 0.01; Series: GRM; Size / Dimension: 0.016" L x 0.008" W (0.40mm x 0.20mm); Supplier 1: DigiKey; Supplier Part Number 1: 490-13658-1-ND; Thickness (Max): 0.009" (0.22mm); Voltage - Rated: 25V
footprint CAP 01005_0402
pins: 1, 2

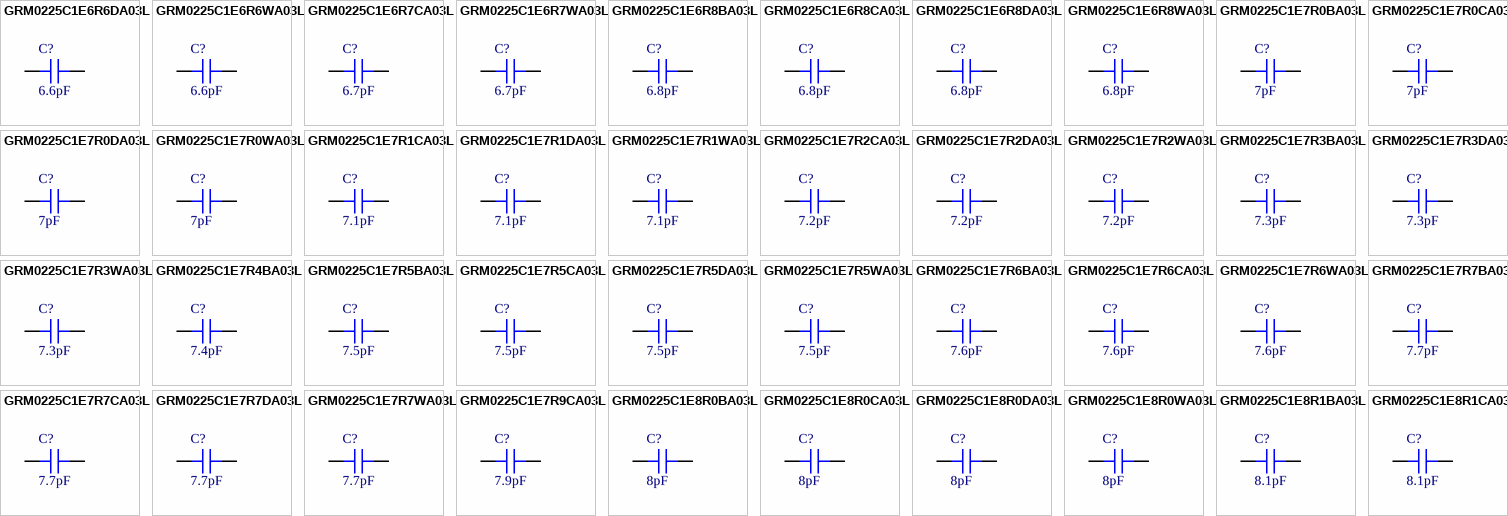
[diagram p8: symbols GRM0225C1E6R6DA03L to GRM0225C1E8R1CA03L]

## GRM0225C1E6R6DA03L
designator C?, comment 6.6pF
CAP CER 6.6PF 25V C0G/NP0 01005; Part Number: GRM0225C1E6R6DA03L; Manufacturer: Murata Electronics; Temperature Coefficient: C0G, NP0; Tolerance: ±0.5pF; Value: 6.6pF; Applications: General Purpose; Capacitance: 6.6pF; ComponentLink1Description: Datasheet; ComponentLink1URL: https://search.murata.co.jp/Ceramy/image/img/A01X/G101/ENG/GRM0225C1E6R6DA03-01.pdf; ComponentLink2Description: DigiKey Link; ComponentLink2URL: http://digikey.com/product-detail/en/murata-electronics/GRM0225C1E6R6DA03L/490-13659-1-ND/6048401; Device Package: 01005 (0402 Metric); LastUpdated: 9/2/2020 1:27:44 AM; Lifecycle Status: Active; Minimum Order: 1; Mounting Type: Surface Mount, MLCC; Operating Temperature: -55°C ~ 125°C; Package / Case: 01005 (0402 Metric); Packaging: TapeAndReel; Part Status: Active; Price: 0.01; Series: GRM; Size / Dimension: 0.016" L x 0.008" W (0.40mm x 0.20mm); Supplier 1: DigiKey; Supplier Part Number 1: 490-13659-1-ND; Thickness (Max): 0.009" (0.22mm); Voltage - Rated: 25V
footprint CAP 01005_0402
pins: 1, 2

## GRM0225C1E6R6WA03L
designator C?, comment 6.6pF
CAP CER 6.6PF 25V C0G/NP0 01005; Part Number: GRM0225C1E6R6WA03L; Manufacturer: Murata Electronics; Temperature Coefficient: C0G, NP0; Tolerance: ±0.05pF; Value: 6.6pF; Applications: General Purpose; Capacitance: 6.6pF; ComponentLink1Description: Datasheet; ComponentLink1URL: https://search.murata.co.jp/Ceramy/image/img/A01X/G101/ENG/GRM0225C1E6R6WA03-01.pdf; ComponentLink2Description: DigiKey Link; ComponentLink2URL: http://digikey.com/product-detail/en/murata-electronics/GRM0225C1E6R6WA03L/490-13660-1-ND/6048402; Device Package: 01005 (0402 Metric); LastUpdated: 9/2/2020 1:27:42 AM; Lifecycle Status: Active; Minimum Order: 1; Mounting Type: Surface Mount, MLCC; Operating Temperature: -55°C ~ 125°C; Package / Case: 01005 (0402 Metric); Packaging: TapeAndReel; Part Status: Active; Price: 0.02; Series: GRM; Size / Dimension: 0.016" L x 0.008" W (0.40mm x 0.20mm); Supplier 1: DigiKey; Supplier Part Number 1: 490-13660-1-ND; Thickness (Max): 0.009" (0.22mm); Voltage - Rated: 25V
footprint CAP 01005_0402
pins: 1, 2

## GRM0225C1E6R7CA03L
designator C?, comment 6.7pF
CAP CER 6.7PF 25V C0G/NP0 01005; Part Number: GRM0225C1E6R7CA03L; Manufacturer: Murata Electronics; Temperature Coefficient: C0G, NP0; Tolerance: ±0.25pF; Value: 6.7pF; Applications: General Purpose; Capacitance: 6.7pF; ComponentLink1Description: Datasheet; ComponentLink1URL: https://search.murata.co.jp/Ceramy/image/img/A01X/G101/ENG/GRM0225C1E6R7CA03-01.pdf; ComponentLink2Description: DigiKey Link; ComponentLink2URL: http://digikey.com/product-detail/en/murata-electronics/GRM0225C1E6R7CA03L/490-13662-1-ND/6048404; Device Package: 01005 (0402 Metric); LastUpdated: 9/2/2020 1:27:44 AM; Lifecycle Status: Active; Minimum Order: 1; Mounting Type: Surface Mount, MLCC; Operating Temperature: -55°C ~ 125°C; Package / Case: 01005 (0402 Metric); Packaging: TapeAndReel; Part Status: Active; Price: 0.01; Series: GRM; Size / Dimension: 0.016" L x 0.008" W (0.40mm x 0.20mm); Supplier 1: DigiKey; Supplier Part Number 1: 490-13662-1-ND; Thickness (Max): 0.009" (0.22mm); Voltage - Rated: 25V
footprint CAP 01005_0402
pins: 1, 2

## GRM0225C1E6R7WA03L
designator C?, comment 6.7pF
CAP CER 6.7PF 25V C0G/NP0 01005; Part Number: GRM0225C1E6R7WA03L; Manufacturer: Murata Electronics; Temperature Coefficient: C0G, NP0; Tolerance: ±0.05pF; Value: 6.7pF; Applications: General Purpose; Capacitance: 6.7pF; ComponentLink1Description: Datasheet; ComponentLink1URL: https://search.murata.co.jp/Ceramy/image/img/A01X/G101/ENG/GRM0225C1E6R7WA03-01.pdf; ComponentLink2Description: DigiKey Link; ComponentLink2URL: http://digikey.com/product-detail/en/murata-electronics/GRM0225C1E6R7WA03L/490-13664-1-ND/6048406; Device Package: 01005 (0402 Metric); LastUpdated: 9/2/2020 1:27:42 AM; Lifecycle Status: Active; Minimum Order: 1; Mounting Type: Surface Mount, MLCC; Operating Temperature: -55°C ~ 125°C; Package / Case: 01005 (0402 Metric); Packaging: TapeAndReel; Part Status: Active; Price: 0.02; Series: GRM; Size / Dimension: 0.016" L x 0.008" W (0.40mm x 0.20mm); Supplier 1: DigiKey; Supplier Part Number 1: 490-13664-1-ND; Thickness (Max): 0.009" (0.22mm); Voltage - Rated: 25V
footprint CAP 01005_0402
pins: 1, 2

## GRM0225C1E6R8BA03L
designator C?, comment 6.8pF
CAP CER 6.8PF 25V C0G/NP0 01005; Part Number: GRM0225C1E6R8BA03L; Manufacturer: Murata Electronics; Temperature Coefficient: C0G, NP0; Tolerance: ±0.1pF; Value: 6.8pF; Applications: General Purpose; Capacitance: 6.8pF; ComponentLink1Description: Datasheet; ComponentLink1URL: https://search.murata.co.jp/Ceramy/image/img/A01X/G101/ENG/GRM0225C1E6R8BA03-01.pdf; ComponentLink2Description: DigiKey Link; ComponentLink2URL: http://digikey.com/product-detail/en/murata-electronics/GRM0225C1E6R8BA03L/490-13665-1-ND/6048407; Device Package: 01005 (0402 Metric); LastUpdated: 9/2/2020 1:27:44 AM; Lifecycle Status: Active; Minimum Order: 1; Mounting Type: Surface Mount, MLCC; Operating Temperature: -55°C ~ 125°C; Package / Case: 01005 (0402 Metric); Packaging: TapeAndReel; Part Status: Active; Price: 0.01; Series: GRM; Size / Dimension: 0.016" L x 0.008" W (0.40mm x 0.20mm); Supplier 1: DigiKey; Supplier Part Number 1: 490-13665-1-ND; Thickness (Max): 0.009" (0.22mm); Voltage - Rated: 25V
footprint CAP 01005_0402
pins: 1, 2

## GRM0225C1E6R8CA03L
designator C?, comment 6.8pF
CAP CER 6.8PF 25V C0G/NP0 01005; Part Number: GRM0225C1E6R8CA03L; Manufacturer: Murata Electronics; Temperature Coefficient: C0G, NP0; Tolerance: ±0.25pF; Value: 6.8pF; Applications: General Purpose; Capacitance: 6.8pF; ComponentLink1Description: Datasheet; ComponentLink1URL: https://search.murata.co.jp/Ceramy/image/img/A01X/G101/ENG/GRM0225C1E6R8CA03-01.pdf; ComponentLink2Description: DigiKey Link; ComponentLink2URL: http://digikey.com/product-detail/en/murata-electronics/GRM0225C1E6R8CA03L/490-13666-1-ND/6048408; Device Package: 01005 (0402 Metric); LastUpdated: 9/2/2020 1:27:43 AM; Lifecycle Status: Active; Minimum Order: 1; Mounting Type: Surface Mount, MLCC; Operating Temperature: -55°C ~ 125°C; Package / Case: 01005 (0402 Metric); Packaging: TapeAndReel; Part Status: Active; Price: 0.01; Series: GRM; Size / Dimension: 0.016" L x 0.008" W (0.40mm x 0.20mm); Supplier 1: DigiKey; Supplier Part Number 1: 490-13666-1-ND; Thickness (Max): 0.009" (0.22mm); Voltage - Rated: 25V
footprint CAP 01005_0402
pins: 1, 2

## GRM0225C1E6R8DA03L
designator C?, comment 6.8pF
CAP CER 6.8PF 25V C0G/NP0 01005; Part Number: GRM0225C1E6R8DA03L; Manufacturer: Murata Electronics; Temperature Coefficient: C0G, NP0; Tolerance: ±0.5pF; Value: 6.8pF; Applications: General Purpose; Capacitance: 6.8pF; ComponentLink1Description: Datasheet; ComponentLink1URL: https://search.murata.co.jp/Ceramy/image/img/A01X/G101/ENG/GRM0225C1E6R8DA03-01.pdf; ComponentLink2Description: DigiKey Link; ComponentLink2URL: http://digikey.com/product-detail/en/murata-electronics/GRM0225C1E6R8DA03L/490-13667-1-ND/6048409; Device Package: 01005 (0402 Metric); LastUpdated: 9/2/2020 1:27:44 AM; Lifecycle Status: Active; Minimum Order: 1; Mounting Type: Surface Mount, MLCC; Operating Temperature: -55°C ~ 125°C; Package / Case: 01005 (0402 Metric); Packaging: TapeAndReel; Part Status: Active; Price: 0.01; Series: GRM; Size / Dimension: 0.016" L x 0.008" W (0.40mm x 0.20mm); Supplier 1: DigiKey; Supplier Part Number 1: 490-13667-1-ND; Thickness (Max): 0.009" (0.22mm); Voltage - Rated: 25V
footprint CAP 01005_0402
pins: 1, 2